# EAGLE library part _CON_MOD_6P6C_V_TH (library SamacSys_Parts)
Mod jack RJ11 vertical Wurth Elektronik 6P6C Straight Through Hole UTP RJ11 Modular Jack Connector Source: Datasheet <https://katalog.we-online.de/em/datasheet/615006138521.pdf>
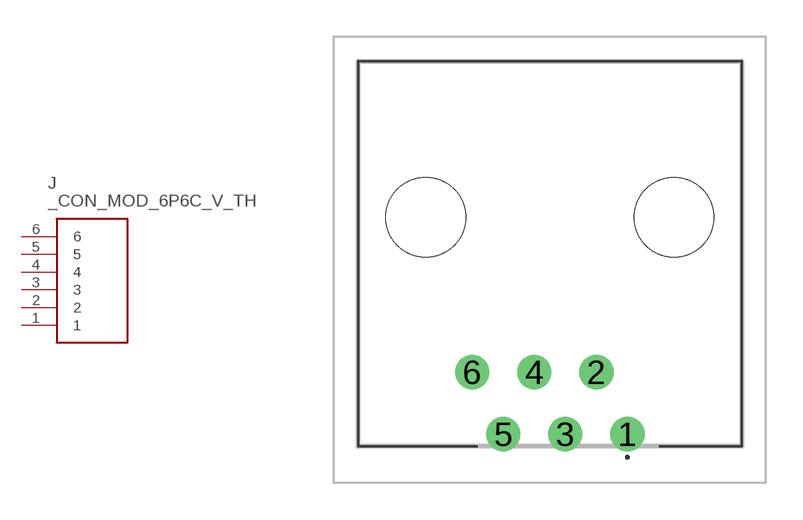
[diagram p37: symbol with the pads of 615006138521; footprint 615006138521]

Designator prefix J

## _CON_MOD_6P6C_V_TH (DESCRIPTION: Mod jack RJ11 vertical Wurth Elektronik 6P6C Straight Through Hole UTP RJ11 Modular Jack Connector; HEIGHT: 15.95mm; MANUFACTURER_NAME: Wurth Elektronik; MANUFACTURER_PART_NUMBER: 615006138521; MOUSER_PART_NUMBER: 710-615006138521; MOUSER_PRICE-STOCK: https://www.mouser.co.uk/ProductDetail/Wurth-Elektronik/615006138521?qs=rS3zZhy2AQM8CSEyZZSO8Q%3D%3D)  [615006138521]
1  1
2  2
3  3
4  4
5  5
6  6

## Footprint 615006138521 (pad centres in mm)
615006138521-2
drill 0.9 pad 1.4: 1 0,0; 2 -1.27,2.54; 3 -2.54,0; 4 -3.81,2.54; 5 -5.08,0; 6 -6.35,2.54
hole 3.25 at 1.905,8.89
hole 3.25 at -8.255,8.89